# Altium schematic symbol library ICs.SchLib: 134 symbols (part 1 of 7)
Pins are listed as number, name and electrical type; pins without a type are passive.

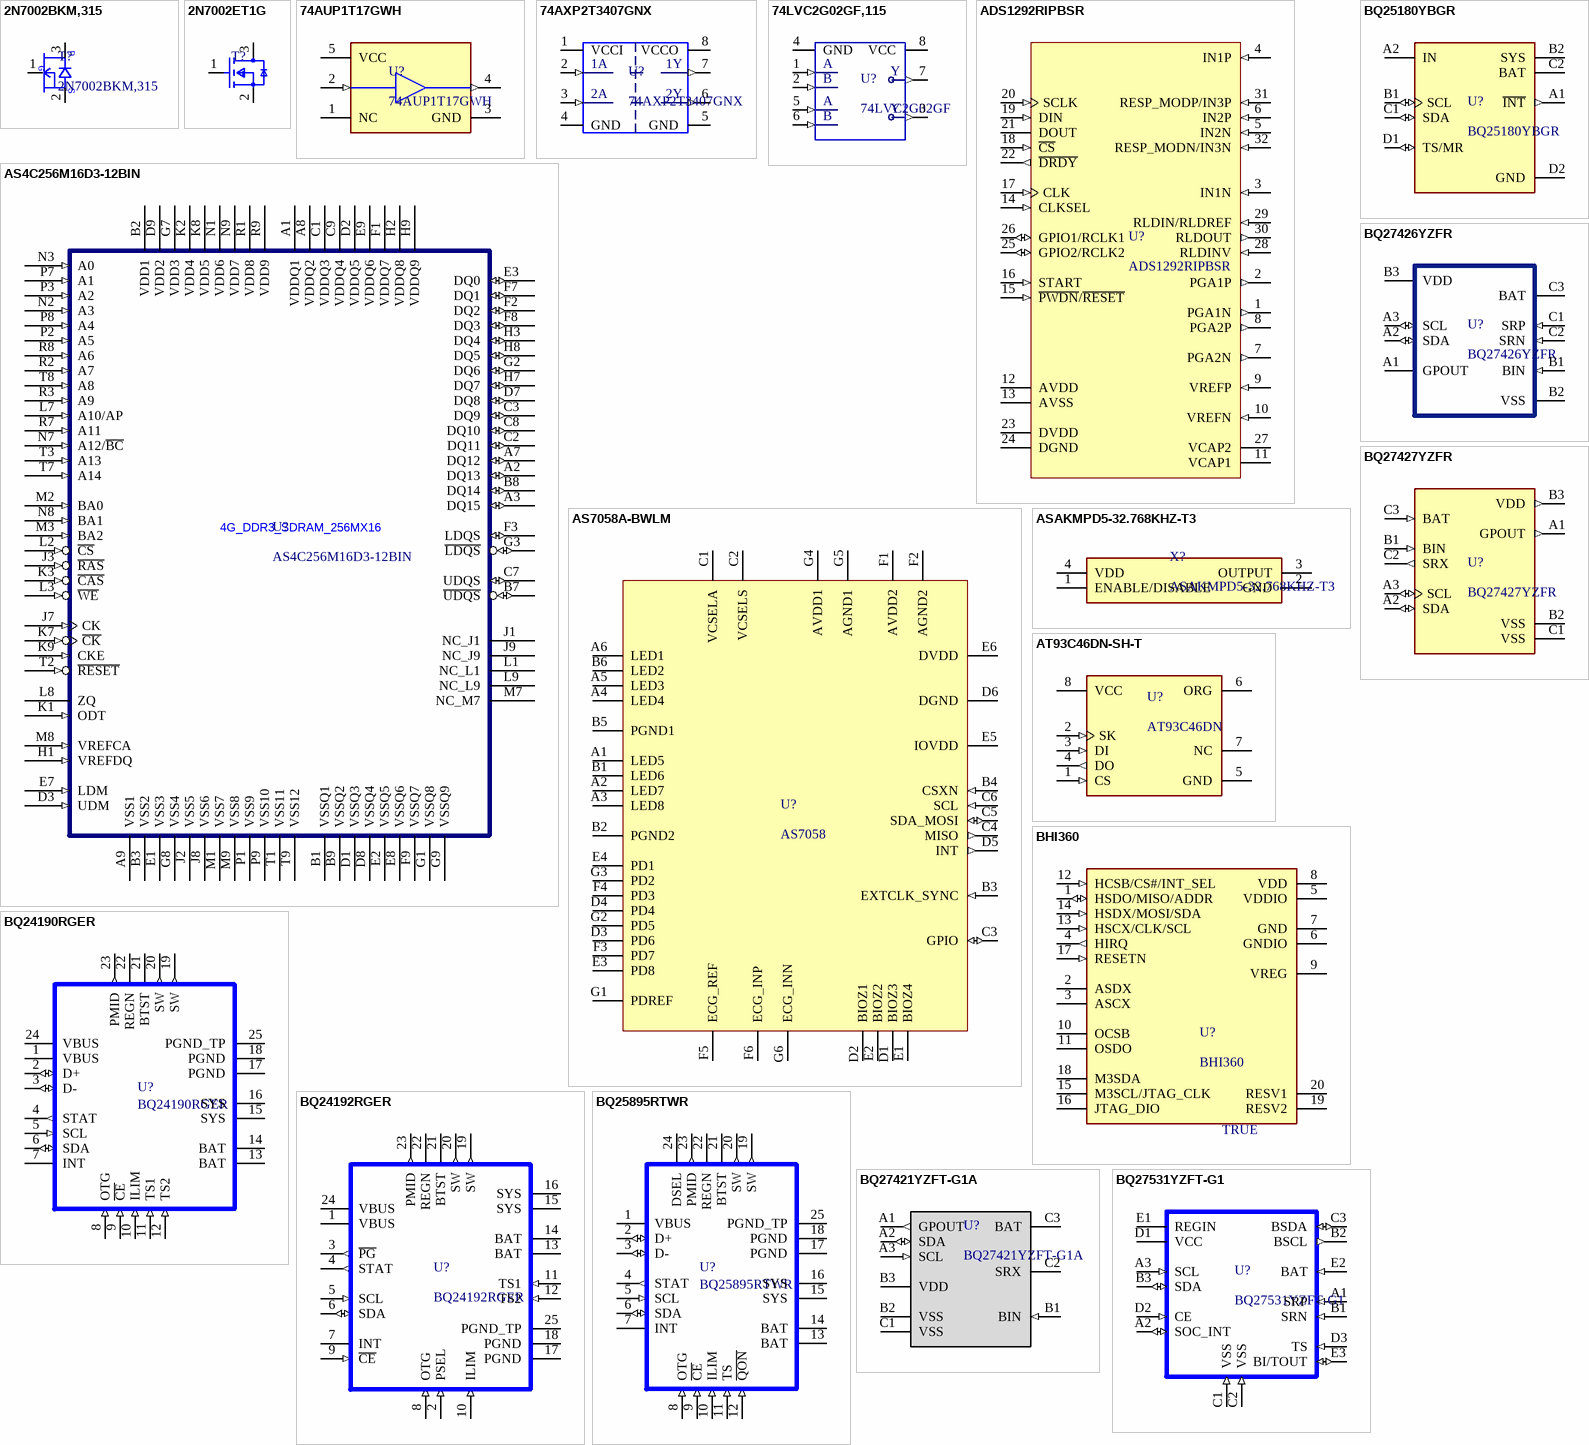
[diagram p0: symbols 2N7002BKM,315 to BQ27531YZFT-G1]

## 2N7002BKM,315
designator T?
MOSFET N-CH 60V 450MA SOT883; Manufacturer: NXP Semiconductors; FET Type: MOSFET N-Channel, Metal Oxide; FET Feature: Logic Level Gate; Current - Continuous Drain (Id) @ 25°C: 450mA (Ta); Rds On (Max) @ Id, Vgs: 1.6 Ohm @ 500mA, 10V; Vgs(th) (Max) @ Id: 2.1V @ 250µA; Gate Charge (Qg) @ Vgs: 0.6nC @ 4.5V; Input Capacitance (Ciss) @ Vds: 50pF @ 10V; Power - Max: 360mW; Supplier 1: Digi-Key; Manufacturer Part Number: 2N7002BKM,315; RoHS: RoHS Compliant; Category: Discrete Semiconductor Products; Stock 1: 12281; Pricing 1: 1=0.28, 10=0.227, 100=0.1546, 500=0.11572, 1000=0.08668 (GBP); Packaging: Digi-Reel®; Part Status: Active; Drain to Source Voltage (Vdss): 60V; Operating Temperature: 150°C (TJ); Mounting Type: Surface Mount; Package / Case: SC-101, SOT-883; Supplier Device Package: DFN1006-3; ComponentLink1URL: http://www.nxp.com/documents/data_sheet/2N7002BKM.pdf; ComponentLink1Description: http://www.nxp.com/documents/data_sheet/2N7002BKM.pdf; Supplier Part Number 1: 568-5976-6-ND
footprint DFN65P100X40-3N (DFN, 3-Leads, Body 0.60x1.00mm, Pitch 0.65mm, IPC Medium Density)
pins: 1 GATE, 2 SOURCE, 3 DRAIN
text: D; G; S

## 2N7002ET1G
designator T?  (value not drawn)
Trans MOSFET N-CH 60V 0.26A 3-Pin SOT-23 T/R; Manufacturer: ON Semiconductor; Continuous Drain Current (ID): 260mA; Turn-Off Delay Time: 4.8ns; Turn-On Delay Time: 1.7ns; Gate to Source Voltage (Vgs): 20V; Rds On Max: 2.5R; Input Capacitance: 26.7pF; Rise Time: 1.2ns; Max Power Dissipation: 300mW; Element Configuration: Single; Nominal Vgs: 1V; Number of Elements: 1; Supplier 1: Digi-Key; Supplier Part Number 1: 2N7002ET1GOSCT-ND; Manufacturer Part Number: 2N7002ET1G; RoHS: Yes; Category: MOSFETs; Stock 1: 176776; Pricing 1: 1=0.18000, 10=0.16300, 25=0.15520, 100=0.06820, 500=0.05356, 1000=0.03720 (USD); Case/Package: SOT-23-3; Number of Pins: 3; Min Operating Temperature: -55°C; Max Operating Temperature: 150°C; Package Quantity: 3000; Packaging: Tape and Reel; Fall Time: 1.2ns; Drain to Source Resistance: 2.5R; On-State Resistance: 2.5R; Drain to Source Breakdown Voltage: 60V; Power Dissipation: 300mW; Threshold Voltage: 1V; Length: 2.9mm; Width: 1.3mm; Height: 0.94mm; Radiation Hardening: No; Lead Free: Lead Free; REACH SVHC: No SVHC; Halogen Free: Halogen Free; ComponentLink1URL: https://datasheet.ciiva.com/936/2n7002e-d-936787.pdf?src-supplier=Digi-Key; ComponentLink1Description: https://datasheet.ciiva.com/936/2n7002e-d-936787.pdf?src-supplier=Digi-Key; ComponentLink2URL: https://datasheet.ciiva.com/8059/2n7002e-d-8059427.pdf?src-supplier=Element14; ComponentLink2Description: https://datasheet.ciiva.com/8059/2n7002e-d-8059427.pdf?src-supplier=Element14; ComponentLink3URL: https://datasheet.ciiva.com/13060/2n7002e-d-105476-13060091.pdf?src-supplier=Mouser; ComponentLink3Description: https://datasheet.ciiva.com/13060/2n7002e-d-105476-13060091.pdf?src-supplier=Mouser; ComponentLink4URL: https://datasheet.ciiva.com/936/2n7002e-d-936788.pdf?src-supplier=Digi-Key; ComponentLink4Description: https://datasheet.ciiva.com/936/2n7002e-d-936788.pdf?src-supplier=Digi-Key; ComponentLink5URL: https://datasheet.ciiva.com/936/2n7002e-d-936789.pdf?src-supplier=Digi-Key; ComponentLink5Description: https://datasheet.ciiva.com/936/2n7002e-d-936789.pdf?src-supplier=Digi-Key; ComponentLink6URL: https://datasheet.ciiva.com/3304/2n7002e-d-3304389.pdf?src-supplier=Avnet; ComponentLink6Description: https://datasheet.ciiva.com/3304/2n7002e-d-3304389.pdf?src-supplier=Avnet; ComponentLink7URL: https://datasheet.ciiva.com/3304/2n7002e-d-3304390.pdf?src-supplier=Avnet; ComponentLink7Description: https://datasheet.ciiva.com/3304/2n7002e-d-3304390.pdf?src-supplier=Avnet; ComponentLink8URL: https://datasheet.ciiva.com/15198/getdatasheetpartid-53846-15198758.pdf?src-supplier=Verical; ComponentLink8Description: https://datasheet.ciiva.com/15198/getdatasheetpartid-53846-15198758.pdf?src-supplier=Verical; ComponentLink9URL: https://datasheet.ciiva.com/26146/2n7002e-d-26146200.pdf?src-supplier=Avnet+Europe; ComponentLink9Description: https://datasheet.ciiva.com/26146/2n7002e-d-26146200.pdf?src-supplier=Avnet+Europe; ComponentLink10URL: https://datasheet.ciiva.com/49018/70339334-49018202.pdf?src-supplier=Allied+Electronics; ComponentLink10Description: https://datasheet.ciiva.com/49018/70339334-49018202.pdf?src-supplier=Allied+Electronics; ComponentLink11URL: https://datasheet.ciiva.com/22641/1708226-22641627.pdf?src-supplier=Element14; ComponentLink11Description: https://datasheet.ciiva.com/22641/1708226-22641627.pdf?src-supplier=Element14; ComponentLink12URL: https://datasheet.ciiva.com/16305/2n7002e-d-16305452.pdf?src-supplier=Future+Electronics; ComponentLink12Description: https://datasheet.ciiva.com/16305/2n7002e-d-16305452.pdf?src-supplier=Future+Electronics; ComponentLink13URL: https://datasheet.ciiva.com/22641/1708226-22641628.pdf?src-supplier=Element14; ComponentLink13Description: https://datasheet.ciiva.com/22641/1708226-22641628.pdf?src-supplier=Element14
footprint FP-318-08-IPC_B (Footprint not found)
pins: 1 Gate, 2 Source, 3 Drain

## 74AUP1T17GWH
designator U?
Schmitt Trigger Buffer, Single, 1 Input, 5 Pins, TSSOP, 74AUP1T17; Manufacturer: Nexperia; Manufacturer Lifecycle Status: RELEASED FOR SUPPLY; Number of Channels: 1; Supplier: Farnell; Supplier Part Number: 74AUP1T17GWH; Manufacturer Part Number: 74AUP1T17GWH; RoHS: Compliant; Category: Logic Gates; Stock: 2930; Pricing: 5=0.383, 10=0.255, 100=0.194, 500=0.17, 1000=0.162 (EUR); Harmonized Tariff Schedule (HTS) Code: 8542.39.00.60; Introduction Date: 2023-07-26; Lifecycle Status: Production; Number of Outputs: 1; Packaging: Cut Tape; Schedule B: 8542390000, 8542390000|8542390000|8542390000|8542390000|8542390000; ComponentLink1URL: https://datasheet.octopart.com:443/74AUP1T17GWH-Nexperia-datasheet-100451928.pdf?src-supplier=SHENGYU+ELECTRONICS; ComponentLink1Description: https://datasheet.octopart.com:443/74AUP1T17GWH-Nexperia-datasheet-100451928.pdf?src-supplier=SHENGYU+ELECTRONICS; ComponentLink2URL: https://datasheet.octopart.com:443/74AUP1T17GWH-Nexperia-datasheet-166310718.pdf?src-supplier=TME; ComponentLink2Description: https://datasheet.octopart.com:443/74AUP1T17GWH-Nexperia-datasheet-166310718.pdf?src-supplier=TME; ComponentLink3URL: http://sigma.octopart.com:80/rohs_statement/NXP-Semiconductors-company-12.pdf?src-supplier=Compliance+Statements; ComponentLink3Description: http://sigma.octopart.com:80/rohs_statement/NXP-Semiconductors-company-12.pdf?src-supplier=Compliance+Statements; ComponentLink4URL: http://sigma.octopart.com:80/reach_statement/NXP-Semiconductors-company-13.pdf?src-supplier=Compliance+Statements; ComponentLink4Description: http://sigma.octopart.com:80/reach_statement/NXP-Semiconductors-company-13.pdf?src-supplier=Compliance+Statements
pins: 1 NC, 2 A (in), 3 GND (power), 4 Y (out), 5 VCC (power)

## 74AXP2T3407GNX
designator U?
IC TRANSLATOR UNIDIR DUAL 8XSON; Manufacturer: NXP Semiconductors; Translator Type: Voltage Level; Channel Type: Unidirectional; Number of Circuits: 2; Channels per Circuit: 1; Voltage - VCCA: 0.7 V ~ 2.75 V; Voltage - VCCB: 1.2 V ~ 5.5 V; Output Type: Non-Inverted, Open Drain; Supplier 1: Digi-Key; Manufacturer Part Number: 74AXP2T3407GNX; RoHS: RoHS Compliant; Category: Integrated Circuits (ICs); Stock 1: 490; Pricing 1: 1=0.58, 10=0.514, 100=0.393, 500=0.31134, 1000=0.24938 (GBP); Packaging: Digi-Reel®; Part Status: Active; Input Signal: -; Output Signal: -; Data Rate: -; Operating Temperature: -40°C ~ 85°C (TA); Features: -; Mounting Type: Surface Mount; Package / Case: 8-XFDFN; Supplier Device Package: 8-XSON, SOT1116 (1.2x1); ComponentLink1URL: http://cache.nxp.com/documents/data_sheet/74AXP2T3407.pdf; ComponentLink1Description: http://cache.nxp.com/documents/data_sheet/74AXP2T3407.pdf; Supplier Part Number 1: 568-12922-6-ND
footprint SON30P100X35-8N (SON, 8-Leads, Body 1.20x1.00mm, Pitch 0.30mm, IPC Medium Density)
ibis 74AXP2T3407_GS (Model Description)
pins: 1 VCCI (power), 2 1A (in), 3 2A (in), 4 GND (power), 5 GND (power), 6 2Y (out), 7 1Y (out), 8 VCCO (power)

## 74LVC2G02GF,115
designator U?, comment 74LVC2G02GF
IC GATE NOR 2CH 2-INP 8-XSON; Manufacturer: NXP Semiconductors; Manufacturer Part Number: 74LVC2G02GF,115; Logic Type: NOR Gate; Number of Circuits: 2; Voltage - Supply: 1.65 V ~ 5.5 V; Current - Quiescent (Max): 40µA; Current - Output High, Low: 32mA, 32mA; Logic Level - Low: 0.7 V ~ 0.8 V; Logic Level - High: 1.7 V ~ 2 V; Max Propagation Delay @ V, Max CL: 1.8ns @ 5V, 50pF; Supplier 1: Digi-Key; RoHS: RoHS Compliant; Category: Integrated Circuits (ICs); Stock 1: 3592; Pricing 1: 1=0.45, 10=0.38, 100=0.2839, 500=0.223, 1000=0.17192 (GBP); Packaging: Digi-Reel®; Part Status: Active; Number of Inputs: 2; Features: -; Operating Temperature: -40°C ~ 125°C; Mounting Type: Surface Mount; Supplier Device Package: 8-XSON, SOT1089 (1.35x1); Package / Case: 8-XFDFN; ComponentLink1URL: http://www.nxp.com/documents/data_sheet/74LVC2G02.pdf; ComponentLink1Description: http://www.nxp.com/documents/data_sheet/74LVC2G02.pdf; Supplier Part Number 1: 568-5465-6-ND
ibis 74LVC2G02_GM (Model Description)
pins: 1 (in), 2 (in), 3 (out), 4 GND (power), 5 (in), 6 (in), 7 (out), 8 VCC (power)
text: A; Y; B

## ADS1292RIPBSR
designator U?
IC AFE 24BIT 2CH LOW PWR 32TQFP; Manufacturer: Texas Instruments; Number of Channels: 2; Max Supply Voltage: 5.25V; Min Supply Voltage: 1.7V; Interface: SPI; Number of Bits: 10; Resolution: 24b; Operating Supply Current: 250uA; Sampling Rate: 8KS/s; Max Power Dissipation: 139mW; Max Supply Voltage (DC): 3.6V; Signal to Noise Ratio (SNR): 107dB; Supplier 1: Digi-Key; Supplier Part Number 1: 296-30389-1-ND; Manufacturer Part Number: ADS1292RIPBSR; RoHS: Yes; Category: Analog to Digital Converters (ADCs); Stock 1: 429; Pricing 1: 1=10.16000, 10=9.17600, 25=8.74960, 100=7.25560, 250=6.61540, 500=6.18860 (USD); Case/Package: TQFP; Number of Pins: 32; Contact Plating: Gold; Min Operating Temperature: -40°C; Max Operating Temperature: 85°C; Packaging: Tape and Reel; Package Quantity: 1; Number of A/D Converters: 2; Number of Inputs: 2; Min Supply Voltage (DC): 1.7V; Type: General Purpose; Radiation Hardening: No; Lead Free: Lead Free; ComponentLink1URL: https://datasheet.ciiva.com/6668/ads1291-6668518.pdf?src-supplier=Digi-Key; ComponentLink1Description: https://datasheet.ciiva.com/6668/ads1291-6668518.pdf?src-supplier=Digi-Key; ComponentLink2URL: https://datasheet.ciiva.com/3043/sbas502b-3043738.pdf?src-supplier=Avnet; ComponentLink2Description: https://datasheet.ciiva.com/3043/sbas502b-3043738.pdf?src-supplier=Avnet
footprint TI-PBS32_M (QFP, 32-Leads, Body 5x5mm, Pitch 0.5mm, IPC Low Density)
pins: 1 PGA1N (out) "PGA1 inverting output", 2 PGA1P (out) "PGA1 noninverting output", 3 IN1N (in) "Differential analog negative input 1", 4 IN1P (in) "Differential analog positive input 1", 5 IN2N (in) "Differential analog negative input 2", 6 IN2P (in) "Differential analog positive input 2", 7 PGA2N (out) "PGA2 inverting output", 8 PGA2P (out) "PGA2 noninverting output", 9 VREFP (in) "Positive reference voltage", 10 VREFN (in) "Negative reference voltage; must be connected to AVSS", 11 VCAP1 "Analog bypass capacitor", 12 AVDD (power) "Analog supply", 13 AVSS (power) "Analog ground", 14 CLKSEL (in) "Master clock select", 15 ~{PWDN}/~{RESET} (in) "Power-down or system reset; active low", 16 START (in) "Start conversion", 17 CLK (in) "Master clock input", 18 ~{CS} (in) "Chip select", 19 DIN (in) "SPI data in", 20 SCLK (in) "SPI clock", 21 DOUT (hiz) "SPI data out", 22 ~{DRDY} (out) "Data ready; active low", 23 DVDD (power) "Digital power supply", 24 DGND (power) "Digital ground", 25 GPIO2/RCLK2 (io) "General-purpose I/O 2 or resp clock 2 (ADS1292R)", 26 GPIO1/RCLK1 (io) "General-purpose I/O 1 or resp clock 1 (ADS1292R)", 27 VCAP2 "Analog bypass capacitor", 28 RLDINV (in) "Right leg drive inverting input; connect to AVDD if not used", 29 RLDIN/RLDREF (in) "Right leg drive input to MUX or RLD amplifier noninverting input; connect to AVDD if not used", 30 RLDOUT (out) "Right leg drive output", 31 RESP_MODP/IN3P (in) "P-side respiration excitation signal for respiration or auxiliary input 3P", 32 RESP_MODN/IN3N (in) "N-side respiration excitation signal for respiration or auxiliary input 3N"

## AS4C256M16D3-12BIN
designator U?
IC SDRAM DDR3 256M X 16 96-FBGA; Manufacturer: Alliance Memory, Inc.; Format - Memory: RAM; Memory Type: DDR3 SDRAM; Memory Size: 4G (256M x 16); Speed: 800MHz; Interface: Parallel; Voltage - Supply: 1.425 V ~ 1.575 V; Supplier 1: Digi-Key; Manufacturer Part Number: AS4C256M16D3-12BIN; RoHS: RoHS Compliant; Category: Integrated Circuits (ICs); Stock 1: 1498; Pricing 1: 1=8.07, 10=7.477, 25=7.3076, 50=7.2676, 100=6.3981, 250=6.08156, 500=6.01916, 1000=5.81851, 5000=5.57329 (GBP); Packaging: Tray; Part Status: Active; Operating Temperature: -40°C ~ 95°C (TC); Package / Case: 96-TFBGA; Supplier Device Package: 96-FBGA (13x9); ComponentLink1URL: http://www.alliancememory.com/pdf/ddr3/4GB-AS4C256M16D3.pdf; ComponentLink1Description: http://www.alliancememory.com/pdf/ddr3/4GB-AS4C256M16D3.pdf; Supplier Part Number 1: 1450-1096-ND
footprint BGA96C80P9X16_900X1300X120 (BGA, 96-Leads, Body 9.00x13.00mmx1.20mm, Pitch 0.80mm)
ibis AS4C256M16D3_C_256Mx16_DDR3 (Model Description)
pins: A1 VDDQ1 (power), A2 DQ13 (io), A3 DQ15 (io), A7 DQ12 (io), A8 VDDQ2 (power), A9 VSS1 (power), B1 VSSQ1 (power), B2 VDD1 (power), B3 VSS2 (power), B7 ~{UDQS} (io), B8 DQ14 (io), B9 VSSQ2 (power), C1 VDDQ3 (power), C2 DQ11 (io), C3 DQ9 (io), C7 UDQS (io), C8 DQ10 (io), C9 VDDQ4 (power), D1 VSSQ3 (power), D2 VDDQ5 (power), D3 UDM (in), D7 DQ8 (io), D8 VSSQ4 (power), D9 VDD2 (power), E1 VSS3 (power), E2 VSSQ5 (power), E3 DQ0 (io), E7 LDM (in), E8 VSSQ6 (power), E9 VDDQ6 (power), F1 VDDQ7 (power), F2 DQ2 (io), F3 LDQS (io), F7 DQ1 (io), F8 DQ3 (io), F9 VSSQ7 (power), G1 VSSQ8 (power), G2 DQ6 (io), G3 ~{LDQS} (io), G7 VDD3 (power), G8 VSS4 (power), G9 VSSQ9 (power), H1 VREFDQ (in), H2 VDDQ8 (power), H3 DQ4 (io), H7 DQ7 (io), H8 DQ5 (io), H9 VDDQ9 (power), J1 NC_J1, J2 VSS5 (power), J3 ~{RAS} (in), J7 CK (in), J8 VSS6 (power), J9 NC_J9, K1 ODT (in), K2 VDD4 (power), K3 ~{CAS} (in), K7 ~{CK} (in), K8 VDD5 (power), K9 CKE (in), L1 NC_L1, L2 ~{CS} (in), L3 ~{WE} (in), L7 A10/AP (in), L8 ZQ, L9 NC_L9, M1 VSS7 (power), M2 BA0 (in), M3 BA2 (in), M7 NC_M7, M8 VREFCA (in), M9 VSS8 (power), N1 VDD6 (power), N2 A3 (in), N3 A0 (in), N7 A12/~{BC} (in), N8 BA1 (in), N9 VDD7 (power), P1 VSS9 (power), P2 A5 (in), P3 A2 (in), P7 A1 (in), P8 A4 (in), P9 VSS10 (power), R1 VDD8 (power), R2 A7 (in), R3 A9 (in), R7 A11 (in), R8 A6 (in), R9 VDD9 (power), T1 VSS11 (power), T2 ~{RESET} (in), T3 A13 (in), T7 A14 (in), T8 A8 (in), T9 VSS12 (power)
text: 4G_DDR3_SDRAM_256MX16

## AS7058A-BWLM
designator U?, comment AS7058
Analog Front End, 20 Bit, 3CH, WLCSP-42;; Manufacturer: ams; Manufacturer Part Number: AS7058A-BWLM; Supplier: Farnell; Supplier Part Number: AS7058A-BWLM; Category: Analog Front End (AFE); Pricing: 500=2.46 (EUR); Supplier 1: DigiKey; Supplier Part Number 1: 4991-AS7058ALGORITHMEVALUATIONKIT-ND
footprint BGA42C40P6X7_250X277X60 (BGA, 42-Leads, Body 2.50x2.77mmx0.60mm, Pitch 0.40mm)
pins: A1 LED5 "LED driver 2", A2 LED7 "LED driver 2", A3 LED8 "LED driver 2", A4 LED4 "LED driver 1", A5 LED3 "LED driver 1", A6 LED1 "LED driver 1", B1 LED6 "LED driver 2", B2 PGND2 (power) "LED driver 2 ground", B3 EXTCLK_SYNC (in) "External clock / sync", B4 CSXN (in) "SPI chip select / I2C mode tie high", B5 PGND1 (power) "LED driver 1 ground", B6 LED2 "LED driver 1", C1 VCSELA "VCSEL/LED analog node", C2 VCSELS (power) "LED/VCSEL supply", C3 GPIO (io), C4 MISO (out) "SPI MISO", C5 SDA_MOSI (io) "I2C SDA / SPI MOSI", C6 SCL (in) "I2C/SPI clock", D1 BIOZ3 "BioZ electrode", D2 BIOZ1 "BioZ electrode", D3 PD6 "Photodiode input", D4 PD4 "Photodiode input", D5 INT (out) "Interrupt", D6 DGND (power) "Digital ground", E1 BIOZ4 "BioZ electrode", E2 BIOZ2 "BioZ electrode", E3 PD8 "Photodiode input", E4 PD1 "Photodiode input", E5 IOVDD (power) "Digital I/O supply", E6 DVDD (power) "Digital core supply", F1 AVDD2 (power) "Analog supply", F2 AGND2 (power) "Analog ground", F3 PD7 "Photodiode input", F4 PD3 "Photodiode input", F5 ECG_REF "ECG reference", F6 ECG_INP "ECG positive input", G1 PDREF "Photodiode reference", G2 PD5 "Photodiode input", G3 PD2 "Photodiode input", G4 AVDD1 (power) "Analog supply", G5 AGND1 (power) "Analog ground", G6 ECG_INN "ECG negative input"

## ASAKMPD5-32.768KHZ-T3
designator X?
Oscillator XO 0.032768MHz ±15ppm 15pF CMOS 55% 1.8V/2.5V/3.3V 4-Pin SMD T/R; Manufacturer: Abracon; Max Supply Voltage: 3.63V; Min Supply Voltage: 1.6V; Supplier: Farnell; Supplier Part Number: ASAKMPD5-32.768KHZ-T3; Manufacturer Part Number: ASAKMPD5-32.768KHZ-T3; RoHS: Compliant; Category: Oscillators; Stock: 1052; Pricing: 1=5.43, 10=4.75, 25=4.54, 50=4.34, 100=4.16, 500=3.81 (EUR); Frequency: 32.768kHz; Frequency Stability: 15ppm; Height: 700µm; Length: 1.6mm; Lifecycle Status: Production; Max Operating Temperature: 85°C; Min Operating Temperature: -40°C; Mounting Technology: Surface Mount; Output Type: CMOS; Schedule B: 8542390000; Width: 1.2mm; ComponentLink1URL: https://datasheet.octopart.com:443/ASAKMPD5-32.768KHZ-T3-Abracon-datasheet-140910730.pdf?src-supplier=Abracon+SCT; ComponentLink1Description: https://datasheet.octopart.com:443/ASAKMPD5-32.768KHZ-T3-Abracon-datasheet-140910730.pdf?src-supplier=Abracon+SCT; ComponentLink2URL: http://sigma.octopart.com:80/conflict_mineral_statement/Abracon-company-27.pdf?src-supplier=Compliance+Statements; ComponentLink2Description: http://sigma.octopart.com:80/conflict_mineral_statement/Abracon-company-27.pdf?src-supplier=Compliance+Statements; Supplier 1: Farnell; Supplier Part Number 1: ASAKMPD5-32.768KHZ-T3
footprint ASAKMPD532768KHZT3
pins: 1 ENABLE/DISABLE, 2 GND, 3 OUTPUT, 4 VDD

## AT93C46DN-SH-T
designator U?, comment AT93C46DN
IC EEPROM 1K SPI 2MHZ 8SOIC; Manufacturer: Microchip; Manufacturer Part Number: AT93C46DN-SH-T; Memory Size: 1Kb; Memory Type: Non-Volatile,EEPROM; Supplier 1: Digi-Key; Supplier Part Number 1: AT93C46DN-SH-TCT-ND; RoHS: No; Category: EEPROM; Stock 1: 8999; Pricing 1: 1=0.20000, 100=0.19000 (USD); Mount: Surface Mount; Case/Package: SOIC; Number of Pins: 8; Min Operating Temperature: -40°C; Max Operating Temperature: 85°C; Packaging: Tape and Reel; Frequency: 2MHz; ComponentLink1URL: http://www.farnell.com/datasheets/2047761.pdf?src-supplier=Farnell; ComponentLink1Description: http://www.farnell.com/datasheets/2047761.pdf?src-supplier=Farnell; ComponentLink2URL: http://www.microchip.com/mymicrochip/filehandler.aspx?ddocname=en589985&src-supplier=Digi-Key; ComponentLink2Description: http://www.microchip.com/mymicrochip/filehandler.aspx?ddocname=en589985&src-supplier=Digi-Key; ComponentLink3URL: http://www.farnell.com/datasheets/2047761.pdf?src-supplier=Newark; ComponentLink3Description: http://www.farnell.com/datasheets/2047761.pdf?src-supplier=Newark
footprint FP-C04-057-SN-IPC_B (Footprint not found)
pins: 1 CS (in), 2 SK (in), 3 DI (in), 4 DO (out), 5 GND (power), 6 ORG, 7 NC, 8 VCC (power)

## BHI360
designator U?  Checked: TRUE
Programmable smart sensor combining accelerometer, gyroscope and fusion software; Manufacturer: Bosch Tools; Supplier: Digikey; Supplier Part Number: 828-BHI360DKR-ND; Manufacturer Part Number: BHI360; RoHS: No; Category: Uncategorized; Stock: 17060; Pricing: 1=6.54, 10=5.232, 25=4.8396, 100=4.1854, 500=3.92384, 1000=3.66226 (USD); Supplier 1: Digikey; Supplier Part Number 1: 828-BHI360DKR-ND; Supplier 2: Mouser; Supplier Part Number 2: 262-BHI360
footprint BHI360
pins: 1 HSDO/MISO/ADDR (io), 2 ASDX, 3 ASCX, 4 HIRQ (out), 5 VDDIO, 6 GNDIO, 7 GND, 8 VDD, 9 VREG, 10 OCSB, 11 OSDO, 12 HCSB/CS#/INT_SEL (in), 13 HSCX/CLK/SCL (in), 14 HSDX/MOSI/SDA (in), 15 M3SCL/JTAG_CLK, 16 JTAG_DIO, 17 RESETN (in), 18 M3SDA, 19 RESV2, 20 RESV1

## BQ24190RGER
designator U?
IC CHRG MGMT LI-ION/POL 24VQFN; Manufacturer: Texas Instruments; Battery Chemistry: Lithium-Ion/Polymer; Number of Cells: 1; Current - Charging: Constant - Programmable; Fault Protection: Over Current, Over Temperature, Over Voltage; Charge Current - Max: 4.5A; Battery Pack Voltage: 4.2V; Voltage - Supply (Max): 17V; Interface: I²C; Supplier 1: Digi-Key; Manufacturer Part Number: BQ24190RGER; RoHS: RoHS Compliant; Category: Integrated Circuits (ICs); Stock 1: 3000; Pricing 1: 1=4.59, 10=4.12, 100=3.3797, 500=2.87524, 1000=2.10178 (GBP); Packaging: Digi-Reel®; Part Status: Active; Programmable Features: -; Operating Temperature: -40°C ~ 85°C (TA); Package / Case: 24-VFQFN Exposed Pad; Supplier Device Package: 24-VQFN (4x4); ComponentLink1URL: http://www.ti.com/lit/ds/symlink/bq24192i.pdf; ComponentLink1Description: http://www.ti.com/lit/ds/symlink/bq24192i.pdf; Supplier Part Number 1: 296-35045-6-ND
footprint QFN50P400X400X100_HS-25N (QFN, 24-Leads, Body 4.00x4.00mm, Pitch 0.50mm, Thermal Pad 2.70x2.70mm, IPC Medium Density)
pins: 1 VBUS (power), 2 D+ (io), 3 D- (io), 4 STAT (out), 5 SCL (in), 6 SDA (io), 7 INT (oc), 8 OTG (in), 9 ~{CE} (in), 10 ILIM (in), 11 TS1 (in), 12 TS2 (in), 13 BAT (power), 14 BAT (power), 15 SYS (power), 16 SYS (power), 17 PGND (power), 18 PGND (power), 19 SW (out), 20 SW (out), 21 BTST (power), 22 REGN (power), 23 PMID (out), 24 VBUS (power), 25 PGND_TP (power)

## BQ24192RGER
designator U?
IC BATT CHARGE MGMT 24VQFN; Manufacturer: Texas Instruments; Battery Chemistry: Lithium-Ion/Polymer; Number of Cells: 1; Current - Charging: Constant - Programmable; Fault Protection: Over Current, Over Temperature, Over Voltage; Charge Current - Max: 4.5A; Battery Pack Voltage: 4.2V; Voltage - Supply (Max): 17V; Interface: I²C; Supplier 1: Digi-Key; Supplier Part Number 1: 296-35054-6-ND; Manufacturer Part Number: BQ24192RGER; RoHS: RoHS Compliant; Category: Integrated Circuits (ICs); Stock 1: 9410; Pricing 1: 1=4.64, 10=4.166, 100=3.4177, 500=2.90756, 1000=2.12541 (GBP); Packaging: Digi-Reel®; Part Status: Active; Programmable Features: -; Operating Temperature: -40°C ~ 85°C (TA); Package / Case: 24-VFQFN Exposed Pad; Supplier Device Package: 24-VQFN (4x4); ComponentLink1URL: http://www.ti.com/lit/ds/symlink/bq24192i.pdf; ComponentLink1Description: http://www.ti.com/lit/ds/symlink/bq24192i.pdf
footprint QFN50P400X400X100_HS-25N (QFN, 24-Leads, Body 4.00x4.00mm, Pitch 0.50mm, Thermal Pad 2.70x2.70mm, IPC Medium Density)
pins: 1 VBUS (power), 2 PSEL (in), 3 ~{PG} (out), 4 STAT (out), 5 SCL (in), 6 SDA (io), 7 INT (oc), 8 OTG (in), 9 ~{CE} (in), 10 ILIM (in), 11 TS1 (in), 12 TS2 (in), 13 BAT (power), 14 BAT (power), 15 SYS (power), 16 SYS (power), 17 PGND (power), 18 PGND (power), 19 SW (out), 20 SW (out), 21 BTST (power), 22 REGN (power), 23 PMID (out), 24 VBUS (power), 25 PGND_TP (power)

## BQ25180YBGR
designator U?
1-A Li-ion I²C programmable charger with regulated power path in WCSP package 8-DSBGA -40 to 85; Manufacturer: Texas Instruments; Supplier: Digi-Key; Supplier Part Number: 296-BQ25180YBGRCT-ND; Manufacturer Part Number: BQ25180YBGR; RoHS: No; Category: Integrated Circuits (ICs); Stock: 2812; Pricing: 1=2,65, 10=2,382, 25=2,2472, 100=1,9147, 250=1,7978, 500=1,57308, 1000=1,3034 (USD); Supplier 1: Mouser; Supplier Part Number 1: 595-BQ25180YBGR
footprint BGA8C40P2X4_104X159X50 (BGA, 8-Leads, Body 1,04x1,59mmx0,50mm, Pitch 0,40mm)
pins: A1 ~{INT} (out), A2 IN (power), B1 SCL (io), B2 SYS (power), C1 SDA (io), C2 BAT (power), D1 TS/MR (io), D2 GND (power)

## BQ25895RTWR
designator U?
IC NVDC CHARGER I2C 24WQFN; Manufacturer: Texas Instruments; Battery Chemistry: Lithium-Ion/Polymer; Number of Cells: 1; Fault Protection: Over Temperature; Charge Current - Max: 5A; Voltage - Supply (Max): 14V; Interface: I²C, USB; Supplier 1: Digi-Key; Manufacturer Part Number: BQ25895RTWR; RoHS: RoHS Compliant; Category: Integrated Circuits (ICs); Stock 1: 2871; Pricing 1: 1=3.67, 10=3.296, 100=2.7037, 500=2.30018, 1000=1.68143 (GBP); Packaging: Digi-Reel®; Part Status: Active; Current - Charging: -; Programmable Features: -; Battery Pack Voltage: -; Operating Temperature: -40°C ~ 85°C (TA); Package / Case: 24-WFQFN Exposed Pad; Supplier Device Package: 24-WQFN (4x4); ComponentLink1URL: http://media.digikey.com/pdf/Data%20Sheets/Texas%20Instruments%20PDFs/BQ25895.pdf; ComponentLink1Description: http://media.digikey.com/pdf/Data%20Sheets/Texas%20Instruments%20PDFs/BQ25895.pdf; Supplier Part Number 1: 296-44345-6-ND
footprint QFN50P400X400X80_HS-25N (QFN, 24-Leads, Body 4.00x4.00mm, Pitch 0.50mm, Thermal Pad 2.70x2.70mm, IPC Medium Density)
pins: 1 VBUS (power), 2 D+ (io), 3 D- (io), 4 STAT (out), 5 SCL (in), 6 SDA (io), 7 INT (oc), 8 OTG (in), 9 ~{CE} (in), 10 ILIM (in), 11 TS (in), 12 ~{QON} (in), 13 BAT (power), 14 BAT (power), 15 SYS (power), 16 SYS (power), 17 PGND (power), 18 PGND (power), 19 SW (out), 20 SW (out), 21 BTST (power), 22 REGN (power), 23 PMID (out), 24 DSEL (oc), 25 PGND_TP (power)

## BQ27421YZFT-G1A
designator U?
IC BATT FUEL GAUGE LICO2 9DSBGA; Manufacturer: Texas Instruments; Output Voltage: 1.8V; Min Supply Voltage: 2.45V; Max Supply Voltage: 4.5V; Interface: I2C; Capacity: 8000mAh; Operating Supply Current: 93uA; Supplier 1: Digi-Key; Supplier Part Number 1: 296-36220-1-ND; Manufacturer Part Number: BQ27421YZFT-G1A; RoHS: Yes; Category: Battery Management; Stock 1: 7016; Pricing 1: 1=2.66000, 10=2.38800, 25=2.25240, 100=1.80200 (USD); Mount: Surface Mount; Number of Pins: 9; Contact Plating: Copper,Tin,Silver; Min Operating Temperature: -40°C; Max Operating Temperature: 85°C; Package Quantity: 1; Packaging: Tape and Reel; Length: 1.65mm; Width: 1.61mm; Height: 0.275mm; Lead Free: Lead Free; REACH SVHC: No SVHC; ComponentLink1URL: https://datasheet.ciiva.com/22726/1726023-22726643.pdf?src-supplier=Element14; ComponentLink1Description: https://datasheet.ciiva.com/22726/1726023-22726643.pdf?src-supplier=Element14; ComponentLink2URL: https://datasheet.ciiva.com/23916/1772511-23916853.pdf?src-supplier=Newark; ComponentLink2Description: https://datasheet.ciiva.com/23916/1772511-23916853.pdf?src-supplier=Newark
footprint BGA9C50P3X3_212X158X62 (BGA, 9-Leads, Body 2.12x1.58mmx0.63mm, Pitch 0.50mm)
pins: A1 GPOUT (out), A2 SDA (io), A3 SCL (in), B1 BIN (in), B2 VSS (power), B3 VDD (power), C1 VSS (power), C2 SRX, C3 BAT (power)

## BQ27426YZFR
designator U?
IC BATTERY FUEL GAUGE 9DSBGA; Manufacturer: Texas Instruments; Function: Battery Monitor; Battery Chemistry: Lithium-Ion; Number of Cells: 1; Interface: I²C; Supplier 1: Digi-Key; Manufacturer Part Number: BQ27426YZFR; RoHS: RoHS Compliant; Category: Integrated Circuits (ICs); Stock 1: 1201; Pricing 1: 1=2.38, 10=2.138, 100=1.7148, 500=1.4094, 1000=0.97875 (USD); Packaging: Digi-Reel®; Part Status: Active; Fault Protection: -; Operating Temperature: -40°C ~ 85°C (TA); Package / Case: 9-UFBGA, DSBGA; Supplier Device Package: 9-DSBGA; ComponentLink1URL: http://www.ti.com/lit/ds/symlink/bq27426.pdf; ComponentLink1Description: http://www.ti.com/lit/ds/symlink/bq27426.pdf; Supplier Part Number 1: 296-43359-6-ND
footprint BGA9C50P3X3_162X158X62 (BGA, 9-Leads, Body 1.62x1.58mmx0.63mm, Pitch 0.50mm)
pins: A1 GPOUT (oc), A2 SDA (io), A3 SCL (io), B1 BIN (in), B2 VSS (power), B3 VDD (power), C1 SRP (in), C2 SRN (in), C3 BAT (power)

## BQ27427YZFR
designator U?
Single-cell battery fuel gauge with pre-programmed chemistry and integrated sense resistor 9-DSBGA -40 to 85; Manufacturer: Texas Instruments; Supplier: Mouser; Supplier Part Number: 595-BQ27427YZFR; Manufacturer Part Number: BQ27427YZFR; RoHS: No; Stock: 1221; Pricing: 1=2,56, 10=2,31, 50=2,18, 100=1,86, 1000=1,26, 10000=1,15 (USD); Supplier 1: Mouser; Supplier Part Number 1: 595-BQ27427YZFR
footprint BGA9C50P3X3_158X162X62 (BGA, 9-Leads, Body 1,58x1,62mmx0,63mm, Pitch 0,50mm)
pins: A1 GPOUT (out), A2 SDA (io), A3 SCL (io), B1 BIN (in), B2 VSS (power), B3 VDD (out), C1 VSS (power), C2 SRX (out), C3 BAT (in)

## BQ27531YZFT-G1
designator U?
IC BATT FUEL GAUGE LIION 15DSBGA; Manufacturer: Texas Instruments; Function: Battery Monitor; Battery Chemistry: Lithium-Ion; Number of Cells: 1; Interface: I²C; Supplier 1: Digi-Key; Supplier Part Number 1: 296-36222-6-ND; Manufacturer Part Number: BQ27531YZFT-G1; RoHS: RoHS Compliant; Category: Integrated Circuits (ICs); Stock 1: 942; Pricing 1: 1=2.77, 10=2.492, 100=2.0445 (GBP); Packaging: Digi-Reel®; Part Status: Active; Fault Protection: -; Operating Temperature: -40°C ~ 85°C (TA); Package / Case: 15-UFBGA, DSBGA; Supplier Device Package: 15-DSBGA; ComponentLink1URL: http://www.ti.com/lit/ds/symlink/bq27531-g1.pdf; ComponentLink1Description: http://www.ti.com/lit/ds/symlink/bq27531-g1.pdf
footprint BGA15C50P3X5_196X261X62 (BGA, 15-Leads, Body 1.96x2.61mmx0.63mm, Pitch 0.50mm)
pins: A1 SRP (in), A2 SOC_INT (io), A3 SCL (in), B1 SRN (in), B2 BSCL (out), B3 SDA (io), C1 VSS (in), C2 VSS (in), C3 BSDA (io), D1 VCC (power), D2 CE (in), D3 TS (in), E1 REGIN (power), E2 BAT (in), E3 BI/TOUT (io)

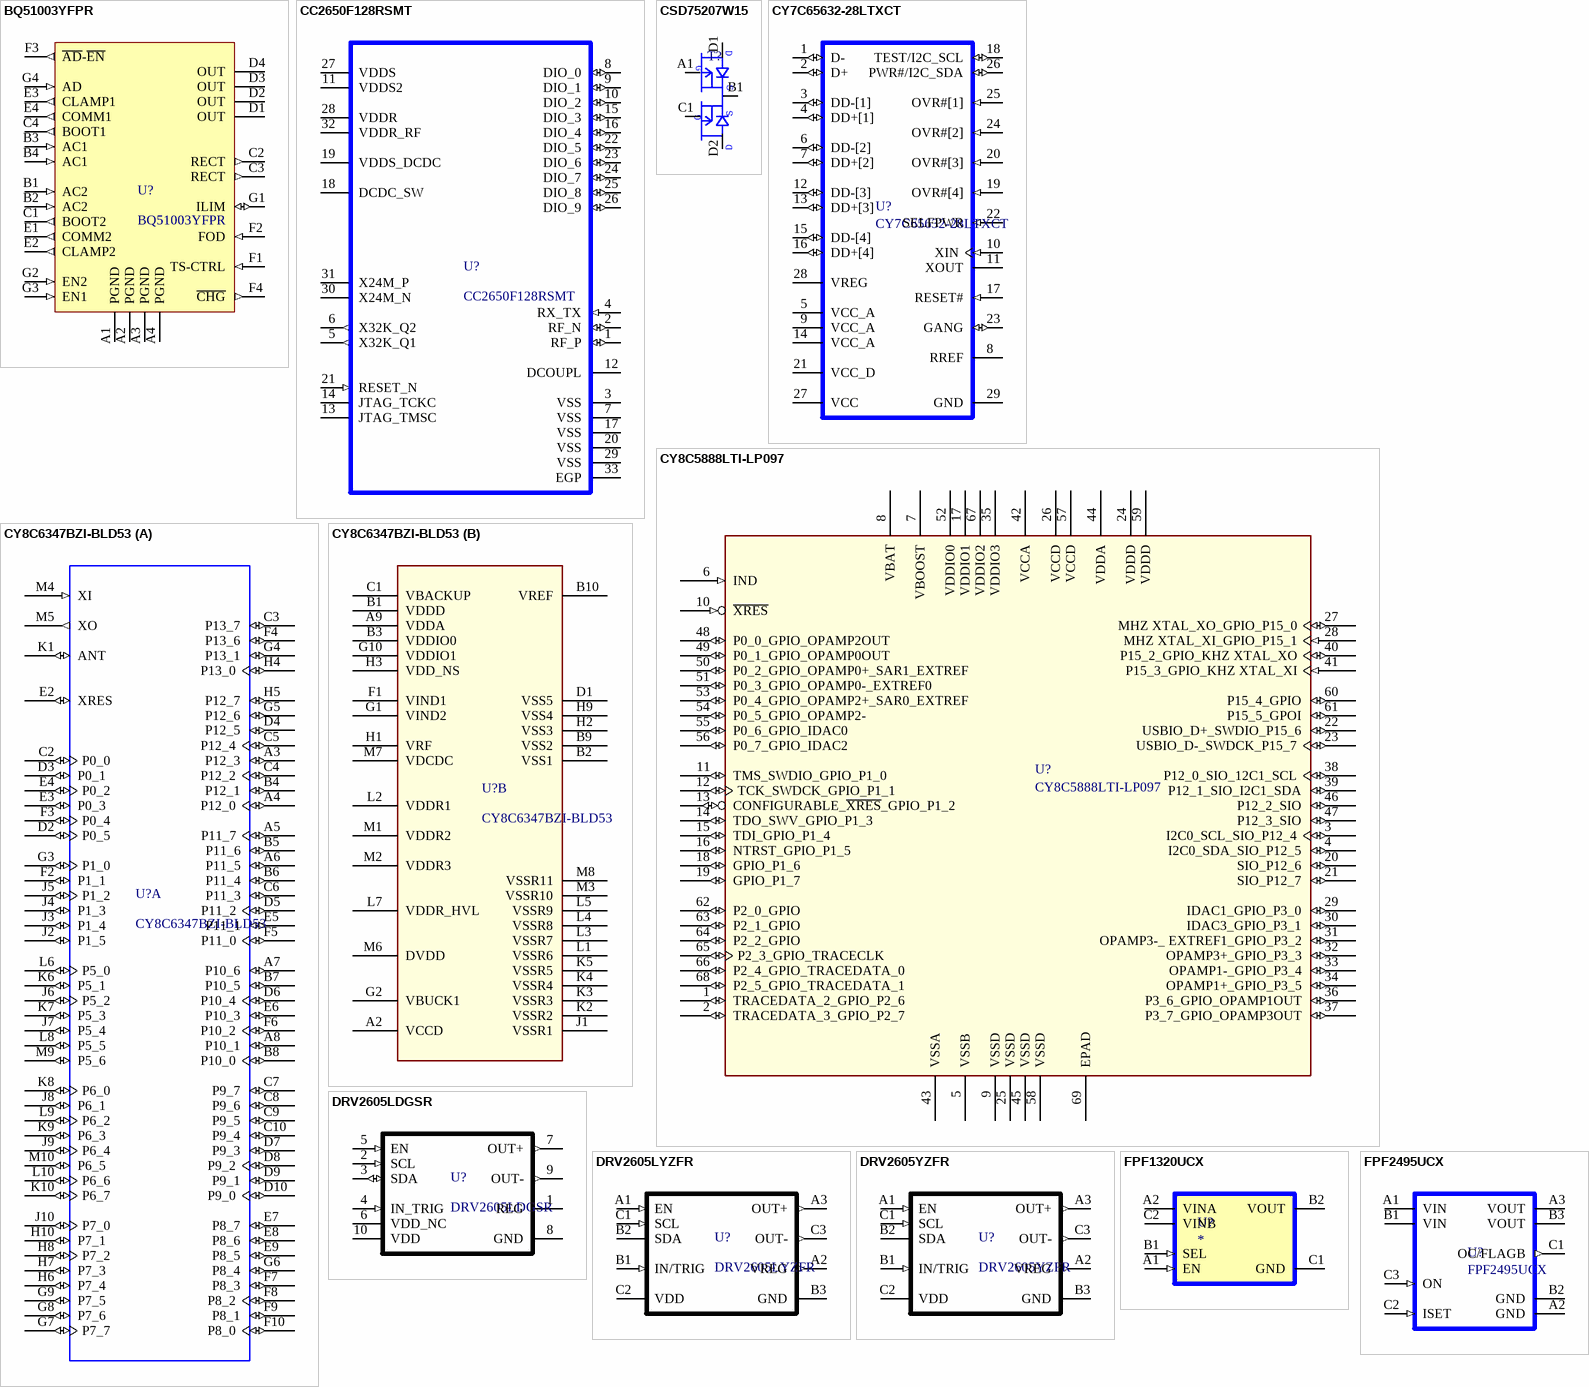
[diagram p1: symbols BQ51003YFPR to FPF2495UCX]

## BQ51003YFPR
designator U?
IC WIRELESS PWR RCVR 28DSBGA; Manufacturer: Texas Instruments; Current - Supply: 500mA; Voltage - Supply: 4 V ~ 10 V; .CheckedSchematic: Yes; Supplier 1: Digi-Key; Manufacturer Part Number: BQ51003YFPR; RoHS: RoHS Compliant; Category: Integrated Circuits (ICs); Stock: 13455; Pricing: 1=2.85, 10=2.541, 25=2.2868, 100=2.0836, 250=1.88036, 500=1.68722, 1000=1.42296 (USD); Packaging: Digi-Reel®; Part Status: Active; Applications: Wireless Power Receiver; Operating Temperature: -40°C ~ 85°C; Mounting Type: Surface Mount; Package / Case: 28-XFBGA, DSBGA; Supplier Device Package: 28-DSBGA; Base Part Number: BQ51003; ComponentLink1URL: http://www.ti.com/lit/ds/symlink/bq51003.pdf; ComponentLink1Description: http://www.ti.com/lit/ds/symlink/bq51003.pdf; Supplier Part Number 1: 296-39952-6-ND; .CheckedFootprint: Yes
footprint BGA28C40P4X7_188X301X50 (BGA, 28-Leads, Body 1.88x3.01mmx0.50mm, Pitch 0.40mm)
pins: A1 PGND (power), A2 PGND (power), A3 PGND (power), A4 PGND (power), B1 AC2 (in), B2 AC2 (in), B3 AC1 (in), B4 AC1 (in), C1 BOOT2 (out), C2 RECT (out), C3 RECT (out), C4 BOOT1 (out), D1 OUT (power), D2 OUT (power), D3 OUT (power), D4 OUT (power), E1 COMM2 (out), E2 CLAMP2 (out), E3 CLAMP1 (out), E4 COMM1 (out), F1 TS-CTRL (in), F2 FOD (in), F3 ~{AD}-~{EN} (out), F4 ~{CHG} (out), G1 ILIM (io), G2 EN2 (in), G3 EN1 (in), G4 AD (in)

## CC2650F128RSMT
designator U?
IC RF TXRX+MCU 802.15.4/BT 32QFN; Manufacturer: Texas Instruments; RF Family/Standard: 802.15.4, Bluetooth; Protocol: 6LoWPAN, Bluetooth v4.1, Zigbee®; Modulation: DSSS, O-QPSK, GFSK; Frequency: 2.4GHz; Data Rate (Max): 1Mbps; Power - Output: 5dBm; Sensitivity: -100dBm; Memory Size: 128kB Flash, 28kB SRAM; Serial Interfaces: I²C, I²S, JTAG, SPI, UART; GPIO: 10; Voltage - Supply: 1.8 V ~ 3.8 V; Current - Receiving: 5.9mA ~ 6.1mA; Current - Transmitting: 6.1mA ~ 9.1mA; Supplier 1: Digi-Key; Supplier Part Number 1: 296-41956-6-ND; Manufacturer Part Number: CC2650F128RSMT; RoHS: RoHS Compliant; Category: RF/IF and RFID; Stock 1: 350; Pricing 1: 1=8.15, 10=7.35, 25=6.7112, 100=6.0718 (EUR); Packaging: Digi-Reel®; Part Status: Active; Type: TxRx + MCU; Operating Temperature: -40°C ~ 85°C; Package / Case: 32-VFQFN Exposed Pad; ComponentLink1URL: http://www.ti.com/lit/gpn/cc2650; ComponentLink1Description: http://www.ti.com/lit/gpn/cc2650
footprint RSM0032B
pins: 1 RF_P (io), 2 RF_N (io), 3 VSS (power), 4 RX_TX (in), 5 X32K_Q1 (out), 6 X32K_Q2 (out), 7 VSS (power), 8 DIO_0 (io), 9 DIO_1 (io), 10 DIO_2 (io), 11 VDDS2 (power), 12 DCOUPL, 13 JTAG_TMSC, 14 JTAG_TCKC, 15 DIO_3 (io), 16 DIO_4 (io), 17 VSS (power), 18 DCDC_SW (power), 19 VDDS_DCDC (power), 20 VSS (power), 21 RESET_N (in), 22 DIO_5 (io), 23 DIO_6 (io), 24 DIO_7 (io), 25 DIO_8 (io), 26 DIO_9 (io), 27 VDDS (power), 28 VDDR (power), 29 VSS (power), 30 X24M_N, 31 X24M_P, 32 VDDR_RF (power), 33 EGP (power)

## CSD75207W15
designator T?  (value not drawn)
MOSFET 2P-CH 3.9A 9DSBGA; Manufacturer: Texas Instruments; FET Type: 2 P-Channel (Dual); FET Feature: Logic Level Gate; Rds On (Max) @ Id, Vgs: 162 mOhm @ 1A, 1.8V; Vgs(th) (Max) @ Id: 1.1V @ 250µA; Gate Charge (Qg) (Max) @ Vgs: 3.7nC @ 4.5V; Input Capacitance (Ciss) (Max) @ Vds: 595pF @ 10V; Power - Max: 700mW; .CheckedFootprint: Yes; Supplier 1: Digi-Key; Manufacturer Part Number: CSD75207W15; RoHS: RoHS Compliant; Category: Discrete Semiconductor Products; Stock: 10783; Pricing: 1=0.83, 10=0.73, 100=0.5629, 500=0.41694, 1000=0.33356 (USD); Packaging: Digi-Reel®; Part Status: Active; Drain to Source Voltage (Vdss): -; Current - Continuous Drain (Id) @ 25°C: 3.9A; Operating Temperature: -55°C ~ 150°C (TJ); Mounting Type: Surface Mount; Package / Case: 9-UFBGA, DSBGA; Supplier Device Package: 9-DSBGA; ComponentLink1URL: http://www.ti.com/lit/ds/symlink/csd75207w15.pdf; ComponentLink1Description: http://www.ti.com/lit/ds/symlink/csd75207w15.pdf; .CheckedSchematic: Yes
footprint BGA9C50P3X3_146X146X62 (BGA, 9-Leads, Body 1.46x1.46mmx0.62mm, Pitch 0.50mm)
pins: A1 GATE, B1 SOURCE, C1 GATE, D1 DRAIN, D2 DRAIN
text: D; G; S

## CY7C65632-28LTXCT
designator U?
IC CONTROLLER USB 28QFN; Manufacturer: Cypress Semiconductor Corp; Function: Hub Controller; Standards: USB 2.0; Voltage - Supply: 3.15 V ~ 5.25 V; Supplier 1: Digi-Key; Manufacturer Part Number: CY7C65632-28LTXCT; RoHS: RoHS Compliant; Category: Integrated Circuits (ICs); Stock 1: 4850; Pricing 1: 1=2.41, 10=2.148, 25=1.9328, 100=1.7609, 250=1.58916, 500=1.42596, 1000=1.20261 (GBP); Packaging: Digi-Reel®; Part Status: Active; Protocol: USB; Interface: USB; Current - Supply: -; Operating Temperature: 0°C ~ 70°C; Package / Case: 28-WFQFN Exposed Pad; Supplier Device Package: 28-QFN (5x5); ComponentLink1URL: http://media.digikey.com/pdf/Data%20Sheets/Cypress%20PDFs/CY7C65632,34.pdf; ComponentLink1Description: http://media.digikey.com/pdf/Data%20Sheets/Cypress%20PDFs/CY7C65632,34.pdf; Supplier Part Number 1: 428-3156-6-ND
footprint QFN50P500X500X80_HS-29N (QFN, 28-Leads, Body 5.00x5.00mm, Pitch 0.50mm, Thermal Pad 3.40x3.40mm, IPC Medium Density)
ibis CY7C65634_28QFN (Model Description)
pins: 1 D- (io) "Upstream D- Signal.", 2 D+ (io) "Upstream D+ Signal.", 3 DD-[1] (io) "Downstream D- Signal.", 4 DD+[1] (io) "Downstream D+ Signal.", 5 VCC_A (power) "VCC_A. 3.3 V analog power to the chip.", 6 DD-[2] (io) "Downstream D- Signal.", 7 DD+[2] (io) "Downstream D+ Signal.", 8 RREF "649 ohm resistor must be connected between RREF and Ground", 9 VCC_A (power) "VCC_A. 3.3 V analog power to the chip.", 10 XIN (in) "12 MHz crystal clock input, or 12 MHz clock input", 11 XOUT "12 MHz Crystal OUT", 12 DD-[3] (io) "Downstream D- Signal. NC in CY7C65634.", 13 DD+[3] (io) "Downstream D+ Signal. NC in CY7C65634.", 14 VCC_A (power) "VCC_A. 3.3 V analog power to the chip.", 15 DD-[4] (io) "Downstream D- Signal. NC in CY7C65634.", 16 DD+[4] (io) "Downstream D+ Signal. NC in CY7C65634.", 17 RESET# (in) "Active LOW Reset. External reset input, default pull high 10 kohm; When RESET = low, whole chip is reset to the initial state", 18 TEST/I2C_SCL (io) "Test: 0: Normal Operation & 1: Chip will be put in test mode I2C_SCL: I2C Clock pin.", 19 OVR#[4] (in) "Overcurrent Condition Detection Input. Default is Active LOW. NC in CY7C65634.", 20 OVR#[3] (in) "Overcurrent Condition Detection Input. Default is Active LOW. NC in CY7C65634.", 21 VCC_D (power) "VCC_D. 3.3 V digital power to the chip.", 22 SELFPWR (in) "Self Power. Input for selecting self/bus power. 0 is bus powered, 1 is self powered.", 23 GANG (io) "GANG. Default is input mode after power-on-reset. Gang Mode: Input:1 -> Output is 0 for Normal Operation and 1 for Suspend Individual Mode: Input:0 -> Output is 1 for Normal Operation and 0 for Suspend Refer to (See Datasheet)", 24 OVR#[2] (in) "Active LOW Overcurrent Condition Detection Input. Overcurrent condition detection input for Port 2.", 25 OVR#[1] (in) "Active LOW Overcurrent Condition Detection Input. Overcurrent condition detection input for Port 1.", 26 PWR#/I2C_SDA (io) "Power Switch Driver Output. Default is Active LOW. I2C_SDA: I2C Data pin.", 27 VCC (power) "VCC. 5 V input to the internal regulator; NC if using external regulator", 28 VREG (power) "VCC. 5-3.3 V regulator o/p during internal regulation; 3.3 V I/P if using external regulator", 29 GND (power) "Ground pin for the chip. It is the solderable exposed pad beneath the chip."

## CY8C5888LTI-LP097
designator U?
MCU 32-Bit CY8C58LPxxx ARM Cortex M3 RISC 256KB Flash 1.8V/3.3V/5V 68-Pin QFN EP Tray; Manufacturer: Cypress; RAM Size: 64KB; Interface: CAN,I2C,I2S,LIN,SPI,UART,USART,USB; Number of I/Os: 38; Number of Timers/Counters: 4; Max Supply Voltage: 5.5V; Min Supply Voltage: 1.71V; Frequency: 80MHz; Oscillator Type: Internal; Data Bus Width: 32b; Watchdog Timer: Yes; Number of ADC Channels: 1; Peripherals: CapSense,DMA,LCD,POR,PWM,WDT; Operating Supply Voltage: 1.8V; Supplier 1: Digi-Key; Supplier Part Number 1: CY8C5888LTI-LP097-ND; Manufacturer Part Number: CY8C5888LTI-LP097; Stock 1: 4031; Pricing 1: 1=17.4, 10=15.82, 25=14.6336, 100=13.447, 260=12.2605, 520=11.4695 (USD); Case/Package: QFN; Number of Pins: 68; Weight: 0.028572oz; Contact Plating: Gold; Min Operating Temperature: -40°C; Max Operating Temperature: 85°C; Packaging: Tray; Number of Programmable I/O: 38; Max Frequency: 80MHz; Memory Type: FLASH; Memory Size: 256KB; Package Quantity: 260; Number of GPIO: 38; Core Architecture: ARM; REACH SVHC: No SVHC; Lead Free: Lead Free
footprint PQFN40P800X800X100_HS-69N (PQFN, 68-Leads, Body 8.00x8.00mm, Pitch 0.40mm, Thermal Pad 5.70x5.70mm, IPC Medium Density)
pins: 1 TRACEDATA_2_GPIO_P2_6 (io), 2 TRACEDATA_3_GPIO_P2_7 (io), 3 I2C0_SCL_SIO_P12_4 (io), 4 I2C0_SDA_SIO_P12_5 (io), 5 VSSB (power), 6 IND (in), 7 VBOOST (power), 8 VBAT (power), 9 VSSD (power), 10 ~{XRES} (in), 11 TMS_SWDIO_GPIO_P1_0 (io), 12 TCK_SWDCK_GPIO_P1_1 (io), 13 CONFIGURABLE_~{XRES}_GPIO_P1_2 (io), 14 TDO_SWV_GPIO_P1_3 (io), 15 TDI_GPIO_P1_4 (io), 16 NTRST_GPIO_P1_5 (io), 17 VDDIO1 (power), 18 GPIO_P1_6 (io), 19 GPIO_P1_7 (io), 20 SIO_P12_6 (io), 21 SIO_P12_7 (io), 22 USBIO_D+_SWDIO_P15_6 (io), 23 USBIO_D-_SWDCK_P15_7 (io), 24 VDDD (power), 25 VSSD (power), 26 VCCD (power), 27 MHZ XTAL_XO_GPIO_P15_0 (io), 28 MHZ XTAL_XI_GPIO_P15_1 (in), 29 IDAC1_GPIO_P3_0 (io), 30 IDAC3_GPIO_P3_1 (io), 31 OPAMP3-_ EXTREF1_GPIO_P3_2 (io), 32 OPAMP3+_GPIO_P3_3 (io), 33 OPAMP1-_GPIO_P3_4 (io), 34 OPAMP1+_GPIO_P3_5 (io), 35 VDDIO3 (power), 36 P3_6_GPIO_OPAMP1OUT (io), 37 P3_7_GPIO_OPAMP3OUT (io), 38 P12_0_SIO_12C1_SCL (io), 39 P12_1_SIO_I2C1_SDA (io), 40 P15_2_GPIO_KHZ XTAL_XO (io), 41 P15_3_GPIO_KHZ XTAL_XI (in), 42 VCCA (power), 43 VSSA (power), 44 VDDA (power), 45 VSSD (power), 46 P12_2_SIO (io), 47 P12_3_SIO (io), 48 P0_0_GPIO_OPAMP2OUT (io), 49 P0_1_GPIO_OPAMP0OUT (io), 50 P0_2_GPIO_OPAMP0+_SAR1_EXTREF (io), 51 P0_3_GPIO_OPAMP0-_EXTREF0 (io), 52 VDDIO0 (power), 53 P0_4_GPIO_OPAMP2+_SAR0_EXTREF (io), 54 P0_5_GPIO_OPAMP2- (io), 55 P0_6_GPIO_IDAC0 (io), 56 P0_7_GPIO_IDAC2 (io), 57 VCCD (power), 58 VSSD (power), 59 VDDD (power), 60 P15_4_GPIO (io), 61 P15_5_GPOI (io), 62 P2_0_GPIO (io), 63 P2_1_GPIO (io), 64 P2_2_GPIO (io), 65 P2_3_GPIO_TRACECLK (io), 66 P2_4_GPIO_TRACEDATA_0 (io), 67 VDDIO2 (power), 68 P2_5_GPIO_TRACEDATA_1 (io), 69 EPAD (power)

## CY8C6347BZI-BLD53
designator U?
Manufacturer: Cypress; Supplier 1: Mouser; Supplier Part Number 1: 727-CY8C6347BZIBLD53; Manufacturer Part Number: CY8C6347BZI-BLD53; Stock 1: 0
footprint BGA116C50P10X12_520X640X70 (BGA, 116-Leads, Body 5.20x6.40mmx0.70mm, Pitch 0.50mm)
part A pins: A3 P12_3 (io), A4 P12_0 (io), A5 P11_7 (io), A6 P11_5 (io), A7 P10_6 (io), A8 P10_1 (io), B4 P12_1 (io), B5 P11_6 (io), B6 P11_4 (io), B7 P10_5 (io), B8 P10_0 (io), C2 P0_0 (io), C3 P13_7 (io), C4 P12_2 (io), C5 P12_4 (io), C6 P11_3 (io), C7 P9_7 (io), C8 P9_6 (io), C9 P9_5 (io), C10 P9_4 (io), D2 P0_5 (io), D3 P0_1 (io), D4 P12_5 (io), D5 P11_2 (io), D6 P10_4 (io), D7 P9_3 (io), D8 P9_2 (io), D9 P9_1 (io), D10 P9_0 (io), E2 XRES (io), E3 P0_3 (io), E4 P0_2 (io), E5 P11_1 (io), E6 P10_3 (io), E7 P8_7 (io), E8 P8_6 (io), E9 P8_5 (io), F2 P1_1 (io), F3 P0_4 (io), F4 P13_6 (io), F5 P11_0 (io), F6 P10_2 (io), F7 P8_3 (io), F8 P8_2 (io), F9 P8_1 (io), F10 P8_0 (io), G3 P1_0 (io), G4 P13_1 (io), G5 P12_6 (io), G6 P8_4 (io), G7 P7_7 (io), G8 P7_6 (io), G9 P7_5 (io), H4 P13_0 (io), H5 P12_7 (io), H6 P7_4 (io), H7 P7_3 (io), H8 P7_2 (io), H10 P7_1 (io), J2 P1_5 (io), J3 P1_4 (io), J4 P1_3 (io), J5 P1_2 (io), J6 P5_2 (io), J7 P5_4 (io), J8 P6_1 (io), J9 P6_4 (io), J10 P7_0 (io), K1 ANT (io), K6 P5_1 (io), K7 P5_3 (io), K8 P6_0 (io), K9 P6_3 (io), K10 P6_7 (io), L6 P5_0 (io), L8 P5_5 (io), L9 P6_2 (io), L10 P6_6 (io), M4 XI (in), M5 XO (out), M9 P5_6 (io), M10 P6_5 (io)
part B pins: A2 VCCD (power), A9 VDDA (power), B1 VDDD (power), B2 VSS1 (power), B3 VDDIO0 (power), B9 VSS2 (power), B10 VREF (power), C1 VBACKUP (power), D1 VSS5 (power), F1 VIND1 (power), G1 VIND2 (power), G2 VBUCK1 (power), G10 VDDIO1 (power), H1 VRF (power), H2 VSS3 (power), H3 VDD_NS (power), H9 VSS4 (power), J1 VSSR1 (power), K2 VSSR2 (power), K3 VSSR3 (power), K4 VSSR4 (power), K5 VSSR5 (power), L1 VSSR6 (power), L2 VDDR1 (power), L3 VSSR7 (power), L4 VSSR8 (power), L5 VSSR9 (power), L7 VDDR_HVL (power), M1 VDDR2 (power), M2 VDDR3 (power), M3 VSSR10 (power), M6 DVDD (power), M7 VDCDC (power), M8 VSSR11 (power)

## DRV2605LDGSR
designator U?
NEXT GEN DRV260X LRA/ERM DRIVER; Manufacturer: Texas Instruments; Motor Type - AC, DC: ERM, LRA; Function: Driver - Fully Integrated, Control and Power Stage; Output Configuration: Half Bridge (2); Interface: I²C; Voltage - Supply: 2 V ~ 5.5 V; Supplier 1: Digi-Key; Manufacturer Part Number: DRV2605LDGSR; RoHS: RoHS Compliant; Category: Integrated Circuits (ICs); Stock 1: 2856; Pricing 1: 1=4.18, 10=3.751, 100=3.073, 500=2.616, 1000=2.20626 (USD); Packaging: Digi-Reel®; Part Status: Active; Motor Type - Stepper: -; Technology: Power MOSFET; Step Resolution: -; Applications: Haptic Feedback; Current - Output: -; Voltage - Load: 2 V ~ 5.5 V; Operating Temperature: -40°C ~ 150°C (TJ); Mounting Type: Surface Mount; Package / Case: 10-TFSOP, 10-MSOP (0.118", 3.00mm Width); Supplier Device Package: 10-VSSOP; ComponentLink1URL: http://www.ti.com/lit/ds/symlink/drv2605l.pdf; ComponentLink1Description: http://www.ti.com/lit/ds/symlink/drv2605l.pdf; Supplier Part Number 1: 296-40032-6-ND
footprint TSSOP50P490X110-10N (TSSOP, 10-Leads, Body 3.00x3.00mm, Pitch 0.50mm, IPC Medium Density)
pins: 1 REG (power), 2 SCL (in), 3 SDA (io), 4 IN_TRIG (in), 5 EN (in), 6 VDD_NC (power), 7 OUT+ (out), 8 GND (power), 9 OUT- (out), 10 VDD (power)

## DRV2605LYZFR
designator U?
Haptic driver for ERM/LRA with 2-V operation, waveform library & auto-resonance tracking 9-DSBGA -40 to 85; Manufacturer: Texas Instruments; Supplier: Mouser; Supplier Part Number: 595-DRV2605LYZFR; Manufacturer Part Number: DRV2605LYZFR; RoHS: Yes; Category: Integrated Circuits (ICs); Stock: 2778; Pricing: 1=1,93, 10=1,74, 50=1,74, 100=1,4, 1000=0,955, 10000=0,845 (USD); ComponentLink1URL: http://www.ti.com/general/docs/suppproductinfo.tsp?distId=10&amp;gotoUrl=http%3A%2F%2Fwww.ti.com%2Flit%2Fgpn%2Fdrv2605l&src-supplier=Digi-Key; ComponentLink1Description: http://www.ti.com/general/docs/suppproductinfo.tsp?distId=10&amp;gotoUrl=http%3A%2F%2Fwww.ti.com%2Flit%2Fgpn%2Fdrv2605l&src-supplier=Digi-Key; ComponentLink2URL: http://www.ti.com/lit/pdf/ssiy004?src-supplier=Digi-Key; ComponentLink2Description: http://www.ti.com/lit/pdf/ssiy004?src-supplier=Digi-Key; ComponentLink3URL: http://www.ti.com/general/docs/lit/getliterature.tsp?genericPartNumber=DRV2605L&&fileType=pdf&src-supplier=Avnet; ComponentLink3Description: http://www.ti.com/general/docs/lit/getliterature.tsp?genericPartNumber=DRV2605L&&fileType=pdf&src-supplier=Avnet; Supplier 1: Mouser; Supplier Part Number 1: 595-DRV2605LYZFR
footprint BGA9C50P3X3_144X144X62 (BGA, 9-Leads, Body 1.44x1.44mmx0.63mm, Pitch 0.50mm)
pins: A1 EN (in), A2 VREG (out), A3 OUT+ (out), B1 IN/TRIG (in), B2 SDA, B3 GND (power), C1 SCL (in), C2 VDD (power), C3 OUT- (out)

## DRV2605YZFR
designator U?
IC ERM/LRA HAPTIC DRIVER 9DSBGA; Manufacturer: Texas Instruments; Motor Type - AC, DC: ERM, LRA; Function: Driver - Fully Integrated, Control and Power Stage; Output Configuration: Half Bridge (2); Interface: I²C; Voltage - Supply: 2.5 V ~ 5.5 V; Supplier 1: Digi-Key; Manufacturer Part Number: DRV2605YZFR; RoHS: RoHS Compliant; Category: Integrated Circuits (ICs); Stock 1: 3853; Pricing 1: 1=3.93, 10=3.528, 100=2.8944, 500=2.4624, 1000=1.8 (USD); Packaging: Digi-Reel®; Part Status: Active; Motor Type - Stepper: -; Technology: Power MOSFET; Step Resolution: -; Applications: Haptic Feedback; Current - Output: -; Voltage - Load: 2.5 V ~ 5.5 V; Operating Temperature: -40°C ~ 150°C (TJ); Mounting Type: Surface Mount; Package / Case: 9-UFBGA, DSBGA; Supplier Device Package: 9-DSBGA; ComponentLink1URL: http://www.ti.com/lit/ds/symlink/drv2605.pdf; ComponentLink1Description: http://www.ti.com/lit/ds/symlink/drv2605.pdf; Supplier Part Number 1: 296-35547-6-ND
footprint BGA9C50P3X3_144X144X62 (BGA, 9-Leads, Body 1.44x1.44mmx0.63mm, Pitch 0.50mm)
pins: A1 EN (in), A2 VREG (out), A3 OUT+ (out), B1 IN/TRIG (in), B2 SDA, B3 GND (power), C1 SCL (in), C2 VDD (power), C3 OUT- (out)

## FPF1320UCX
designator U?
IC ADVANCED POWER SWITCH 6WLCSP; Manufacturer: Fairchild Semiconductor; Manufacturer Part Number: FPF1320UCX; Number of Outputs: 1; Rds (On): 60 mOhm; Internal Switch(s): Yes; Current Limit: 1.5A; Voltage - Input: 1.5 V ~ 5.5 V; Supplier 1: Digi-Key; RoHS: RoHS Compliant; Category: Integrated Circuits (ICs); Stock 1: 1622; Pricing 1: 1=0.73, 10=0.636, 25=0.562, 100=0.4896, 250=0.42616, 500=0.36278, 1000=0.29057 (EUR); Packaging: Digi-Reel®; Type: High Side Switch; Operating Temperature: -40°C ~ 85°C; Mounting Type: Surface Mount; Package / Case: 6-UFBGA, WLCSP; Supplier Device Package: 6-WLCSP; ComponentLink1URL: http://www.fairchildsemi.com/ds/FP/FPF1320.pdf; ComponentLink1Description: http://www.fairchildsemi.com/ds/FP/FPF1320.pdf; Supplier Part Number 1: FPF1320UCXDKR-ND
footprint BGA6C50P2X3_96X146X62 (BGA, 6-Leads, Body 0.96x1.46mmx0.63mm, Pitch 0.50mm)
pins: A1 EN (in), A2 VINA (power), B1 SEL (in), B2 VOUT (power), C1 GND (power), C2 VINB (power)

## FPF2495UCX
designator U?
IC LOAD SWITCH 28 9WLCSP; Manufacturer: Fairchild Semiconductor; Number of Outputs: 1; Rds (On): 100 mOhm; Internal Switch(s): Yes; Current Limit: 1.5A; Voltage - Input: 2.5 V ~ 5.5 V; Supplier 1: Digi-Key; Manufacturer Part Number: FPF2495UCX; RoHS: RoHS Compliant; Category: Integrated Circuits (ICs); Stock 1: 2650; Pricing 1: 1=0.81, 10=0.715, 25=0.6456, 100=0.5648, 250=0.49532, 500=0.4393, 1000=0.3474 (EUR); Packaging: *; Type: Current Switch; Operating Temperature: -40°C ~ 85°C; Mounting Type: *; Package / Case: *; Supplier Device Package: *; ComponentLink1URL: http://www.fairchildsemi.com/ds/FP/FPF2495.pdf; ComponentLink1Description: http://www.fairchildsemi.com/ds/FP/FPF2495.pdf; Supplier Part Number 1: FPF2495UCXDKR-ND
footprint BGA9C40P3X3_121X121X62 (BGA, 9-Leads, Body 1.21x1.21mmx0.63mm, Pitch 0.40mm)
pins: A1 VIN (power), A2 GND (power), A3 VOUT (power), B1 VIN (power), B2 GND (power), B3 VOUT (power), C1 OC/FLAGB (out), C2 ISET (in), C3 ON (in)

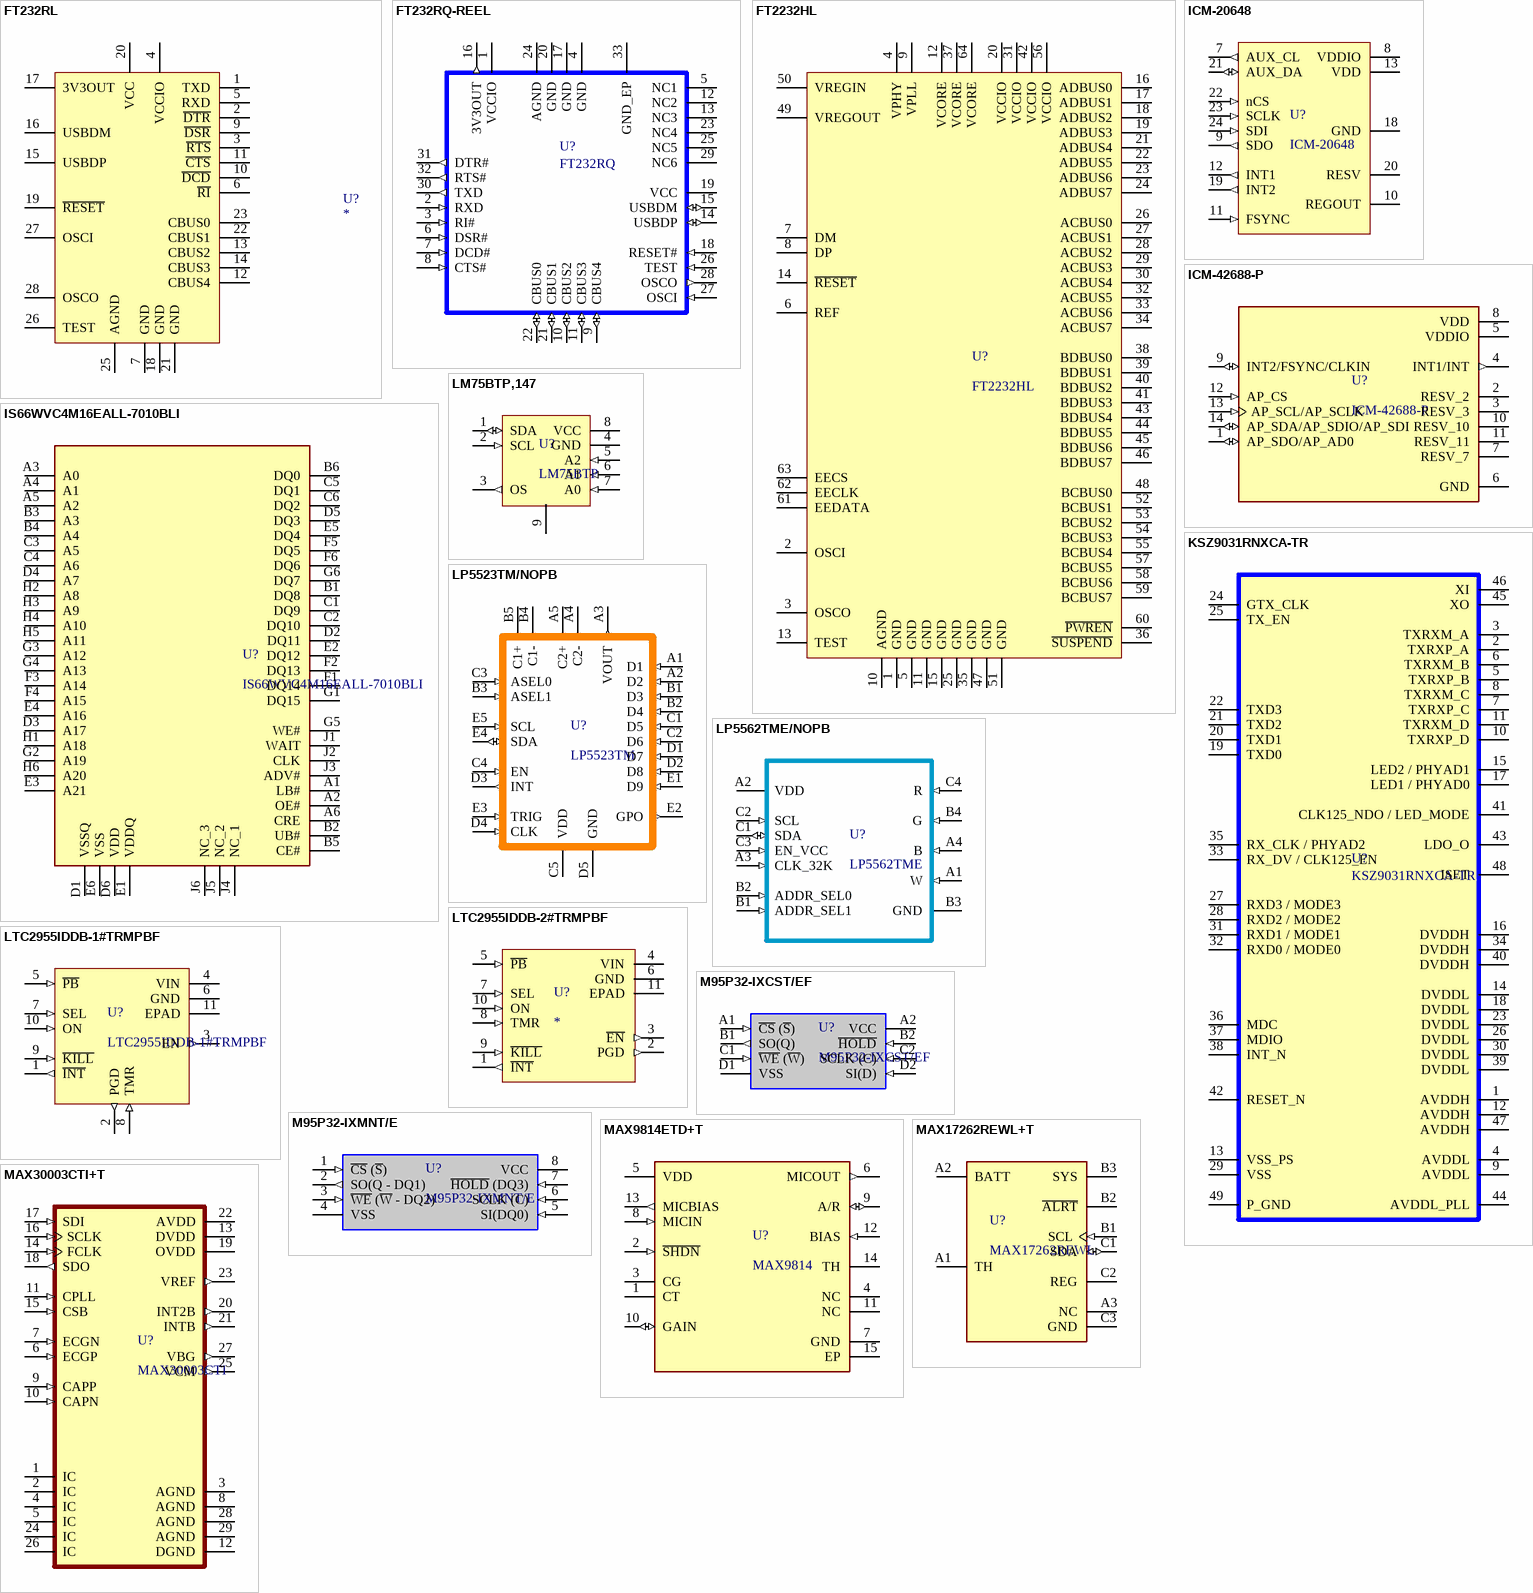
[diagram p2: symbols FT232RL to MAX30003CTI+T]

## FT232RL
designator U?
IC USB FS SERIAL UART 28-SSOP; Manufacturer Part Number: FT232RL-REEL; Manufacturer: FTDI, Future Technology Devices International Ltd; Number of Channels: 1, UART; FIFO's: 256 Byte; Protocol: RS-232, RS-422, RS-485; Voltage - Supply: 3.3 V ~ 5.25 V; With Auto Flow Control: Yes; Supplier 1: Digi-Key; Supplier Part Number 1: 768-1007-6-ND; RoHS: RoHS Compliant; Category: Integrated Circuits (ICs); Stock 1: 34727; Pricing 1: 1=3.54, 10=3.185, 50=3.028, 100=2.8707, 250=2.55612, 500=2.24152 (EUR); Features: USB to UART; With Parallel Port: -; With IrDA Encoder/Decoder: -; With False Start Bit Detection: -; With Modem Control: Yes; With CMOS: Yes; Mounting Type: Surface Mount; Package / Case: 28-SSOP (0.209", 5.30mm Width); Supplier Device Package: 28-SSOP; Packaging: Digi-Reel®; ComponentLink1URL: http://www.ftdichip.com/Support/Documents/DataSheets/ICs/DS_FT232R.pdf; ComponentLink1Description: http://www.ftdichip.com/Support/Documents/DataSheets/ICs/DS_FT232R.pdf
footprint SOP65P780X200-28N (SOP, 28-Leads, Body 10,5x5,6mm (max), Pitch 0,65mm, IPC Medium Density)
pins: 1 TXD, 2 ~{DTR}, 3 ~{RTS}, 4 VCCIO, 5 RXD, 6 ~{RI}, 7 GND, 8 NC hidden to NC, 9 ~{DSR}, 10 ~{DCD}, 11 ~{CTS}, 12 CBUS4, 13 CBUS2, 14 CBUS3, 15 USBDP, 16 USBDM, 17 3V3OUT, 18 GND, 19 ~{RESET}, 20 VCC, 21 GND, 22 CBUS1, 23 CBUS0, 24 NC hidden to NC, 25 AGND, 26 TEST, 27 OSCI, 28 OSCO
2 alternate drawings of the same symbol